# EAGLE library part MOSFET_2P+2N_AP9930GM (library NA-2025)
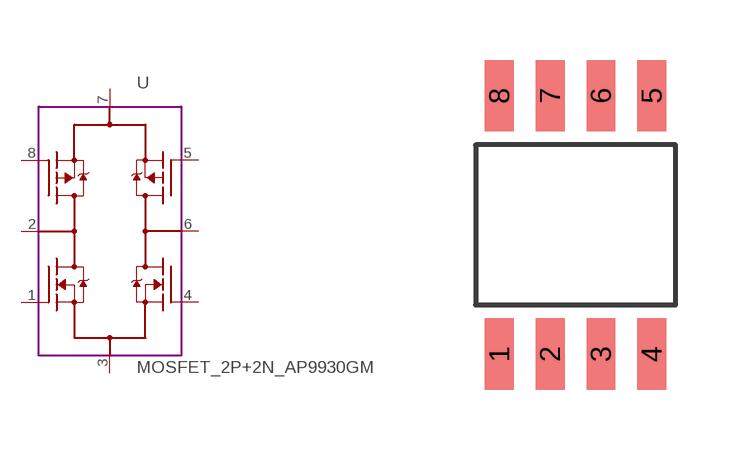
[diagram p35: symbol with the pads of SO8; footprint SO8]

Designator prefix -

## MOSFET_2P+2N_AP9930GM  [SO8]
1  N1G  pas
2  P1N1D  pas
3  N1N2S  pas
4  N2G  pas
5  P2G  pas
6  P2N2D  pas
7  P1P2S  pas
8  P1G  pas

## Footprint SO8 (pad centres in mm)
smd 0.72 x 1.78: 1 -1.905,-3.23; 2 -0.635,-3.23; 3 0.635,-3.23; 4 1.905,-3.23; 5 1.905,3.23; 6 0.635,3.23; 7 -0.635,3.23; 8 -1.905,3.23